# Altium footprint library DO-201.PcbLib: 1 footprints
Each footprint in its own frame and in the unit in brackets; x right, y up, seen from the top. Pads: shape width x height; smd on the part's side, far side on the other; paste and mask are expansions set on the pad; w line width, h text height; cw(c..) or ccw(c..) is an arc to the next point about the centre after c.
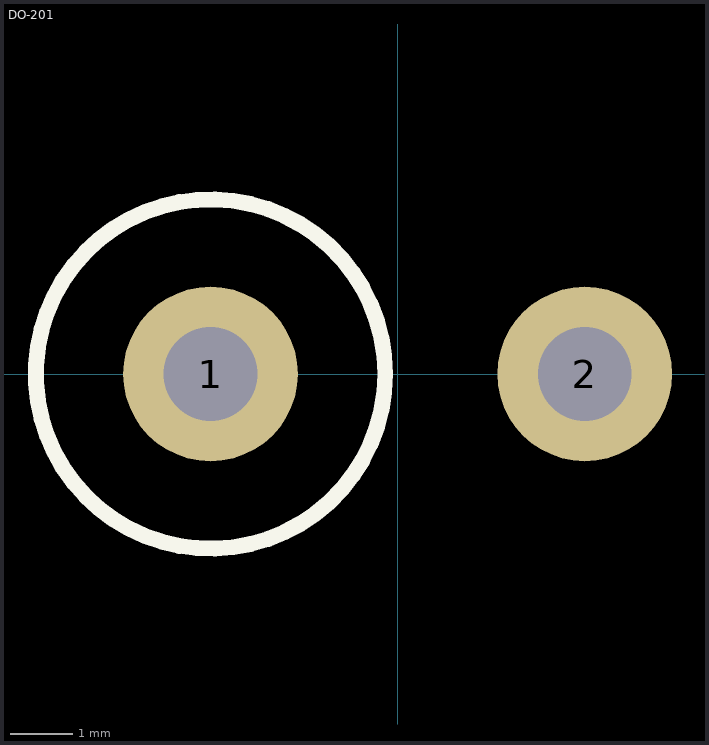
[diagram p0: the footprint, top view; thin cyan lines are the x and y axes]

## DO-201 [mm]
pads (2):
  round 2.8 hole 1.5 unplated: 1(-3,0) 2(3,0)
Top Overlay:
  circle w0.254: c-3,0 r2.8